# Altium footprint library MAGIsBoard.PcbLib: 2 footprints
Each footprint in its own frame and in the unit in brackets; x right, y up, seen from the top. Pads: shape width x height; smd on the part's side, far side on the other; paste and mask are expansions set on the pad; w line width, h text height; cw(c..) or ccw(c..) is an arc to the next point about the centre after c.
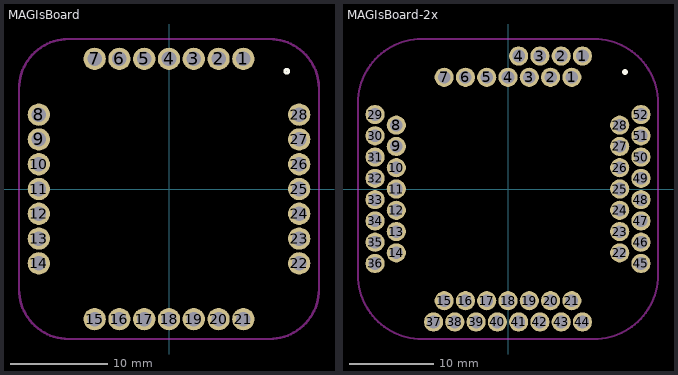
[diagram p0: the footprints below, top view; thin cyan lines are the x and y axes]

## MAGIsBoard [mil]
pads (28):
  round 90 hole 59.06: 1(300,525) 2(200,525) 3(100,525) 4(0,525) 5(-100,525) 6(-200,525) 7(-300,525) 8(-525,300) 9(-525,200) 10(-525,100) 11(-525,0) 12(-525,-100) 13(-525,-200) 14(-525,-300) 15(-300,-525) 16(-200,-525) 17(-100,-525) 18(0,-525) 19(100,-525) 20(200,-525) 21(300,-525) 22(525,-300) 23(525,-200) 24(525,-100) 25(525,0) 26(525,100) 27(525,200) 28(525,300)
Bottom Layer:
  text "MAGI" at 520,-520 h31.5
Top Overlay:
  circle w13: c475,475 r7.07
Bottom Overlay:
  text "D0" at -391.02,275.08 h39.37
  text "D1" at -391.02,175.08 h39.37
  text "D2" at -391.02,75.08 h39.37
  text "D3" at -391.02,-24.92 h39.37
  text "D4" at -391.02,-124.92 h39.37
  text "D5" at -391.02,-224.92 h39.37
  text "D6" at -391.02,-324.92 h39.37
  text "D7" at -266.02,-459.92 h39.37
  text "D8" at -167.02,-459.92 h39.37
  text "D9" at -68.02,-459.92 h39.37
  text "D10" at 41.97,-462.05 h31.5
  text "D11" at 130.48,-462.05 h31.5
  text "D12" at 239.98,-462.05 h31.5
  text "D13" at 338.98,-462.05 h31.5
  text "A0" at 458.98,-329.92 h39.37
  text "A1" at 458.98,-229.09 h39.37
  text "A2" at 458.98,-128.25 h39.37
  text "A3" at 458.98,-27.42 h39.37
  text "A4" at 458.98,73.41 h39.37
  text "A5" at 458.98,174.25 h39.37
  text "RST" at 458.98,275.08 h39.37
  text "GND" at 339.57,414.84 h31.5
  text "3V3" at 234.57,414.84 h31.5
  text "5V" at 124.57,414.84 h31.5
  text "AREF" at 44.57,414.84 h31.5
Keep-Out Layer:
  lines w10: -605,-415 -605,290 -605,420 ; -605,-405 ccw(c-405,-405) -405,-605 ; -605,405 cw(c-405,405) -405,605 ; -425,605 425,605 ; -410,-605 415,-605 ; 405,-605 ccw(c405,-405) 605,-405 ; 405,605 cw(c405,405) 605,405 ; 605,-425 605,430

## MAGIsBoard-2x [mil]
pads (56):
  round 90 hole 59.06: 1(300,525) 1(350,625) 2(200,525) 2(250,625) 3(100,525) 3(150,625) 4(0,525) 4(50,625) 5(-100,525) 6(-200,525) 7(-300,525) 29(-625,350) 30(-625,250) 31(-625,150) 32(-625,50) 33(-625,-50) 34(-625,-150) 35(-625,-250) 36(-625,-350) 37(-350,-625) 38(-250,-625) 39(-150,-625) 40(-50,-625) 41(50,-625) 42(150,-625) 43(250,-625) 44(350,-625) 45(625,-350) 46(625,-250) 47(625,-150) 48(625,-50) 49(625,50) 50(625,150) 51(625,250) 52(625,350)
  round 90 / inner round 72 / far side round 72 hole 59.06: 8(-525,300) 9(-525,200) 10(-525,100) 11(-525,0) 12(-525,-100) 13(-525,-200) 14(-525,-300) 15(-300,-525) 16(-200,-525) 17(-100,-525) 18(0,-525) 19(100,-525) 20(200,-525) 21(300,-525) 22(525,-300) 23(525,-200) 24(525,-100) 25(525,0) 26(525,100) 27(525,200) 28(525,300)
Bottom Layer:
  text "MAGI" at 605,-595 h31.5
Top Overlay:
  circle w13: c550,550 r7.07
Bottom Overlay:
  text "AREF" at 49.57,429.84 h31.5
  text "5V" at 129.57,429.84 h31.5
  text "3V3" at 239.57,429.84 h31.5
  text "GND" at 344.57,429.84 h31.5
  text "PD2" at 471.54,335.51 h31.5
  text "PC12" at 471.54,235.12 h31.5
  text "PC11" at 471.54,132.76 h31.5
  text "PC10" at 471.54,32.36 h31.5
  text "PC9" at 471.54,-66.06 h31.5
  text "PC8" at 471.54,-166.46 h31.5
  text "PC7" at 471.54,-266.85 h31.5
  text "PC6" at 471.54,-367.24 h31.5
  text "PC13" at 396.73,-465.67 h23.62
  text "PC3" at 286.5,-469.61 h31.5
  text "PC2" at 190.04,-469.61 h31.5
  text "PC1" at 89.65,-469.61 h31.5
  text "PC0" at -10.75,-469.61 h31.5
  text "PB13" at -111.14,-467.64 h23.62
  text "PB7" at -211.54,-469.61 h31.5
  text "PB6" at -313.9,-469.61 h31.5
  text "PA5" at 347.52,-418.43 h31.5
  text "PA6" at 247.13,-418.43 h31.5
  text "PA7" at 146.73,-418.43 h31.5
  text "PA4" at 46.34,-418.43 h31.5
  text "PB10" at -52.09,-420.39 h23.62
  text "PB11" at -152.48,-420.39 h23.62
  text "PB12" at -252.87,-420.39 h23.62
  text "PB5" at -376.89,-357.4 h31.5
  text "PB4" at -376.89,-257.01 h31.5
  text "PB3" at -376.89,-156.61 h31.5
  text "PA15" at -361.14,-60.16 h31.5
  text "PA14" at -361.14,40.24 h31.5
  text "PA13" at -361.14,140.63 h31.5
  text "PB2" at -388.7,241.02 h31.5
  text "BOOT0" at -327.68,341.42 h31.5
  text "PA10" at -361.14,290.24 h31.5
  text "PA9" at -386.73,193.78 h31.5
  text "PA8" at -386.73,91.42 h31.5
  text "PA3" at -386.73,-8.98 h31.5
  text "PA2" at -386.73,-109.37 h31.5
  text "PA1" at -386.73,-207.8 h31.5
  text "PA0" at -376.89,-308.19 h31.5
  text "PC4" at 471.54,-318.03 h31.5
  text "PC5" at 471.54,-217.64 h31.5
  text "PB0" at 471.54,-117.24 h31.5
  text "PB1" at 471.54,-16.85 h31.5
  text "PB9" at 471.54,83.54 h31.5
  text "PB8" at 471.54,183.94 h31.5
  text "NRST" at 471.54,284.33 h31.5
Keep-Out Layer:
  lines w10: -705,-415 -705,415 ; -705,-405 ccw(c-405,-405) -405,-705 ; -705,405 cw(c-405,405) -405,705 ; -425,705 425,705 ; -410,-705 415,-705 ; 405,-705 ccw(c405,-405) 705,-405 ; 405,705 cw(c405,405) 705,405 ; 705,-425 705,430